# EAGLE library part USB_MINI (library USB_Isolator)
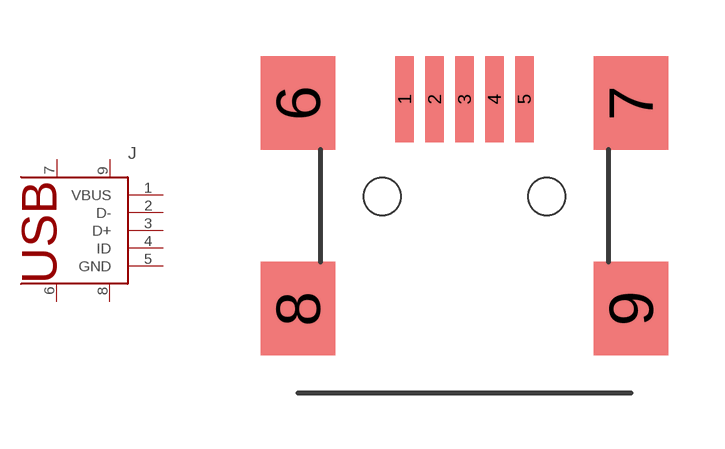
[diagram p3: symbol with the pads of USB_MINI; footprint USB_MINI]

Designator prefix J

## USB_MINI  [USB_MINI]
1  VBUS  sup
2  D-
3  D+
4  ID
5  GND  sup
6  SHIELD1
7  SHIELD2
8  SHIELD3
9  SHIELD4

## Footprint USB_MINI (pad centres in mm)
smd 0.5 x 2.3: 1 -1.6,2.6; 2 -0.8,2.6; 3 0,2.6; 4 0.8,2.6; 5 1.6,2.6
smd 2 x 2.5: 6 -4.45,2.5; 7 4.45,2.5; 8 -4.45,-3; 9 4.45,-3
hole 1 at -2.2,0
hole 1 at 2.2,0